# Altium footprint library transistor-small-signal.PCBLIB: 107 footprints (part 3 of 7)
Each footprint in its own frame and in the unit in brackets; x right, y up, seen from the top. Pads: shape width x height; smd on the part's side, far side on the other; paste and mask are expansions set on the pad; w line width, h text height; cw(c..) or ccw(c..) is an arc to the next point about the centre after c.
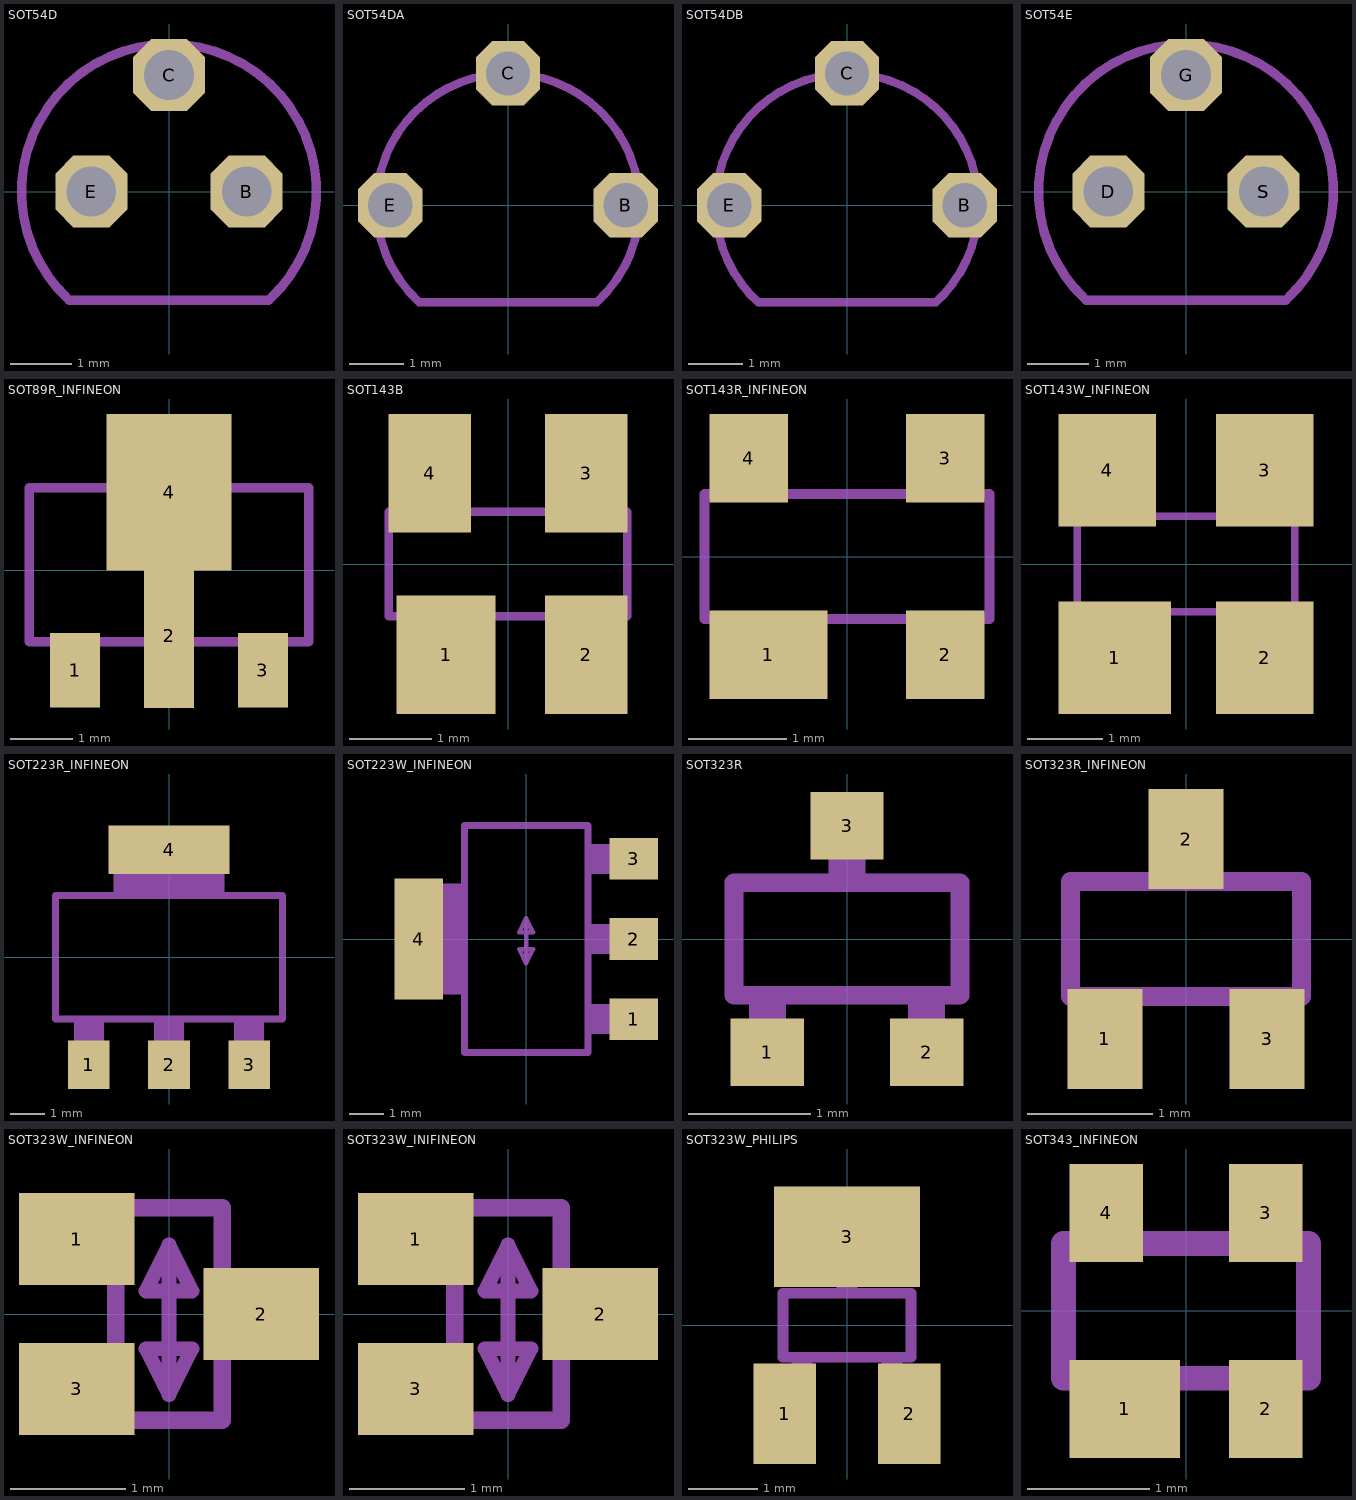
[diagram p2: the footprints below, top view; thin cyan lines are the x and y axes]

## SOT54D [mil]
pads (3):
  oct 46.48x46.48 hole 32: B(50,0) C(0,75) E(-50,0)
Mechanical 2:
  lines w6: -38.15,87 ccw(c0.01,0) -64.21,-70 64.21,-70 ccw(c-0.01,0) 38.15,87
Mechanical 18:
  lines w6: -38.16,87 cw(c0,-0.01) 38.16,87

## SOT54DA [mil]
pads (3):
  oct 46.48x46.48 hole 32: B(85,0) C(0,95) E(-85,0)
Mechanical 2:
  lines w6: -83.68,44.98 cw(c0,-0.01) -43.72,84.34 ; -83.67,-44.98 ccw(c0.01,0.03) -64.21,-70 64.21,-70 ccw(c-0.01,0.03) 83.67,-44.98 ; 43.72,84.34 cw(c0,-0.01) 83.68,44.98
Mechanical 18:
  lines w6: -83.68,-44.98 cw(c0,0) -83.68,44.98 ; -43.72,84.34 cw(c0,0) 43.72,84.34 ; 83.68,-44.98 ccw(c0,0) 83.68,44.98

## SOT54DB [mil]
pads (3):
  oct 46.48x46.48 hole 32: B(85,0) C(0,95) E(-85,0)
Mechanical 2:
  lines w6: -81.25,-49.23 ccw(c-0.02,0.01) -64.22,-70 64.21,-70 ccw(c-0.01,0.02) 81.24,-49.23 ; -81.25,49.23 cw(c-0.01,0.01) -48.24,81.84 ; 48.24,81.84 cw(c0.01,0.01) 81.25,49.23
Mechanical 18:
  lines w6: -81.25,-49.23 cw(c0,0) -81.25,49.23 ; -48.24,81.84 cw(c0,-0.01) 48.24,81.84 ; 81.25,-49.23 ccw(c0,0) 81.25,49.23

## SOT54E [mil]
pads (3):
  oct 46.48x46.48 hole 32: D(-50,0) G(0,75) S(50,0)
Mechanical 2:
  lines w6: -38.15,87 ccw(c0.01,0) -64.21,-70 64.21,-70 ccw(c-0.01,0) 38.15,87
Mechanical 18:
  lines w6: -38.16,87 cw(c0,-0.01) 38.16,87

## SOT89R_INFINEON [mil]
pads (4):
  rect 31.5x47.24 smd: 1(-59.06,-62.99) 3(59.06,-62.99)
  rect 31.5x90.55 smd paste-45.27 mask-45.27: 2(0,-41.34)
  rect 78.74x98.43 smd: 4(0,49.21)
Top Paste:
  rectangle: -15.75,-86.61 15.75,-39.37
Top Solder:
  rectangle: -19.69,-90.55 19.69,-35.43
Mechanical 18:
  rectangle: -68,-79.06 -50,-46.06
  rectangle: 50,-79.06 68,-46.06
  rectangle: -11,-79.06 11,-46.06
  region: 0,0 10,0 10,10 0,10
  lines w6: -87.99,-45.08 87.99,-45.08 87.99,51.93 -87.99,51.93 -87.99,-45.08
  lines w8: -31,54.94 31,54.94 31,65.94 14,82.94 -14,82.94 -31,65.94 -31,54.94

## SOT143B [mm]
pads (4):
  rect 1.2x1.44 smd: 1(-0.75,-1.1)
  rect 1x1.44 smd: 2(0.95,-1.1) 3(0.95,1.1) 4(-0.95,1.1)
Mechanical 18:
  rectangle: 0.737,-1.321 1.194,-0.635
  rectangle: 0.711,0.635 1.168,1.321
  rectangle: -1.143,0.635 -0.686,1.321
  rectangle: -1.194,-1.321 -0.305,-0.635
  lines w0.102: -1.448,-0.635 1.448,-0.635 1.448,0.635 -1.448,0.635 -1.448,-0.635

## SOT143R_INFINEON [mm]
pads (4):
  rect 1.2x0.9 smd: 1(-0.8,-1)
  rect 0.8x0.9 smd: 2(1,-1) 3(1,1) 4(-1,1)
Mechanical 18:
  rectangle: 0.737,-1.321 1.194,-0.635
  rectangle: 0.711,0.635 1.168,1.321
  rectangle: -1.143,0.635 -0.686,1.321
  rectangle: -1.194,-1.321 -0.305,-0.635
  lines w0.102: -1.448,-0.635 -1.448,0.635 1.448,0.635 1.448,-0.635 -1.448,-0.635

## SOT143W_INFINEON [mil]
pads (4):
  rect 59.06x59.06 smd: 1(-37.4,-49.21)
  rect 51.18x59.06 smd: 2(41.34,-49.21) 3(41.34,49.21) 4(-41.34,49.21)
Mechanical 18:
  rectangle: 29,-52 47,-25
  rectangle: 28,25 46,52
  rectangle: -45,25 -27,52
  rectangle: -47,-52 -12,-25
  lines w4: -57,-25 57,-25 57,25 -57,25 -57,-25

## SOT223R_INFINEON [mil]
pads (4):
  rect 47.24x55.12 smd: 1(-90.98,-122.01) 2(0,-122.01) 3(90.98,-122.01)
  rect 137.8x55.12 smd: 4(0,122.01)
Mechanical 2:
  lines w8: -129.02,-70 129.02,-70 129.02,70 -129.02,70 -129.02,-70
Mechanical 18:
  rectangle: -63,71 63,144
  rectangle: -17,-144 17,-71
  rectangle: -108,-144 -74,-71
  rectangle: 74,-144 108,-71
  rectangle: -63,71 63,144
  rectangle: -17,-144 17,-71
  rectangle: -108,-144 -74,-71
  rectangle: 74,-144 108,-71

## SOT223W_INFINEON [mil]
pads (4):
  rect 55.12x47.24 smd: 1(122.01,-90.98) 2(122.01,0) 3(122.01,90.98)
  rect 55.12x137.8 smd: 4(-122.01,0)
Mechanical 2:
  lines w8: -70,-129.02 70,-129.02 70,129.02 -70,129.02 -70,-129.02
Mechanical 15:
  lines w5: 0,-27.56 0,23.62 ; 0,-27.56 7.87,-11.81 -7.87,-11.81 0,-27.56 ; 0,23.62 -7.87,7.87 7.87,7.87 0,23.62
Mechanical 18:
  rectangle: -144,-63 -71,63
  rectangle: 71,-17 144,17
  rectangle: 71,-108 144,-74
  rectangle: 71,74 144,108
  rectangle: -144,-63 -71,63
  rectangle: 71,-17 144,17
  rectangle: 71,-108 144,-74
  rectangle: 71,74 144,108

## SOT323R [mm]
pads (3):
  rect 0.6x0.55 smd: 1(-0.65,-0.925) 2(0.65,-0.925) 3(0,0.925)
Mechanical 2:
  lines w0.152: -0.923,-0.461 0.923,-0.461 0.923,0.461 -0.923,0.461 -0.923,-0.461
Mechanical 18:
  rectangle: -0.8,-1.1 -0.5,-0.5
  rectangle: 0.5,-1.1 0.8,-0.5
  rectangle: -0.15,0.5 0.15,1.1

## SOT323R_INFINEON [mil]
pads (3):
  rect 23.62x31.5 smd: 1(-25.59,-31.5) 2(0,31.5) 3(25.59,-31.5)
Mechanical 2:
  lines w6: -36.32,-18.13 -36.32,18.13 ; 36.32,-18.13 36.32,18.13
Mechanical 18:
  rectangle: -31.5,-43.31 -19.69,-19.69
  rectangle: 19.69,-43.31 31.5,-19.69
  rectangle: -5.91,19.69 5.91,43.31
  lines w6: -36.32,-18.13 36.32,-18.13 36.32,18.13 -36.32,18.13 -36.32,-18.13

## SOT323W_INFINEON [mil]
pads (3):
  rect 39.37x31.5 smd: 1(-31.5,25.59) 2(31.5,0) 3(-31.5,-25.59)
Mechanical 15:
  lines w5: 0,-27.56 0,23.62 ; 0,-27.56 7.87,-11.81 -7.87,-11.81 0,-27.56 ; 0,23.62 -7.87,7.87 7.87,7.87 0,23.62
Mechanical 18:
  rectangle: -43.31,19.69 -19.69,31.5
  rectangle: -43.31,-31.5 -19.69,-19.69
  rectangle: 19.69,-5.91 43.31,5.91
  lines w6: -18.13,-36.32 18.13,-36.32 18.13,36.32 -18.13,36.32 -18.13,-36.32

## SOT323W_INIFINEON [mil]
pads (3):
  rect 39.37x31.5 smd: 1(-31.5,25.59) 2(31.5,0) 3(-31.5,-25.59)
Mechanical 2:
  lines w6: -18.13,-36.32 18.13,-36.32 ; -18.13,36.32 18.13,36.32
Mechanical 15:
  lines w5: 0,-27.56 0,23.62 ; 0,-27.56 7.87,-11.81 -7.87,-11.81 0,-27.56 ; 0,23.62 -7.87,7.87 7.87,7.87 0,23.62
Mechanical 18:
  rectangle: -43.31,19.69 -19.69,31.5
  rectangle: -43.31,-31.5 -19.69,-19.69
  rectangle: 19.69,-5.91 43.31,5.91
  lines w6: -18.13,-36.32 18.13,-36.32 18.13,36.32 -18.13,36.32 -18.13,-36.32

## SOT323W_PHILIPS [mil]
pads (3):
  rect 35.43x57.09 smd: 1(-35.43,-50.2) 2(35.43,-50.2)
  rect 82.68x57.09 smd: 3(0,50.2)
Mechanical 2:
  lines w6: -36.32,-18.13 36.32,-18.13 36.32,18.13 -36.32,18.13 -36.32,-18.13
Mechanical 18:
  rectangle: -31.5,-43.31 -19.69,-19.69
  rectangle: 19.69,-43.31 31.5,-19.69
  rectangle: -5.91,19.69 5.91,43.31
  lines w6: -36.32,-18.13 36.32,-18.13 36.32,18.13 -36.32,18.13 -36.32,-18.13

## SOT343_INFINEON [mil]
pads (4):
  rect 35.43x31.5 smd: 1(-19.69,-31.5)
  rect 23.62x31.5 smd: 2(25.59,-31.5) 3(25.59,31.5) 4(-25.59,31.5)
Mechanical 2:
  lines w8: -39.37,-21.65 -39.37,21.65 ; 39.37,-21.65 39.37,21.65
Mechanical 18:
  rectangle: -33.46,-43.31 -5.91,-23.62
  rectangle: 17.72,-43.31 33.46,-23.62
  rectangle: 17.72,23.62 33.46,43.31
  rectangle: -33.46,23.62 -17.72,43.31
  lines w8: -39.37,-21.65 39.37,-21.65 ; -39.37,21.65 39.37,21.65